# EAGLE library part NUCLEO-CN7 (library ELL-i-Boards)
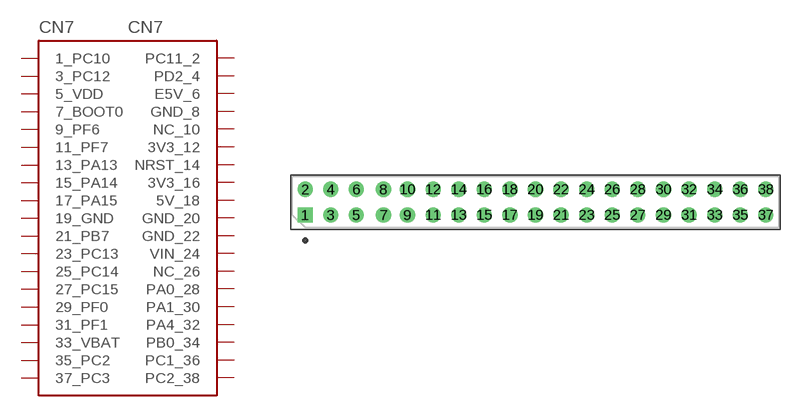
[diagram p5: symbol with the pads of NUCLEO-HEADER; footprint NUCLEO-HEADER]

Designator prefix CN7

## NUCLEO-CN7  [NUCLEO-HEADER]
1  1_PC10
2  PC11_2
3  3_PC12
4  PD2_4
5  5_VDD
6  E5V_6
7  7_BOOT0
8  GND_8
9  9_PF6
10  NC_10
11  11_PF7
12  3V3_12
13  13_PA13
14  NRST_14
15  15_PA14
16  3V3_16
17  17_PA15
18  5V_18
19  19_GND
20  GND_20
21  21_PB7
22  GND_22
23  23_PC13
24  VIN_24
25  25_PC14
26  NC_26
27  27_PC15
28  PA0_28
29  29_PF0
30  PA1_30
31  31_PF1
32  PA4_32
33  33_VBAT
34  PB0_34
35  35_PC2
36  PC1_36
37  37_PC3
38  PC2_38

## Footprint NUCLEO-HEADER (pad centres in mm)
drill 1 square: 1 -22.86,-1.27
drill 1: 2 -22.86,1.27; 3 -20.32,-1.27; 4 -20.32,1.27; 5 -17.78,-1.27; 6 -17.78,1.27; 7 -15.08,-1.27; 8 -15.08,1.27; 9 -12.7,-1.27; 10 -12.7,1.27; 11 -10.16,-1.27; 12 -10.16,1.27; 13 -7.62,-1.27; 14 -7.62,1.27; 15 -5.08,-1.27; 16 -5.08,1.27; 17 -2.54,-1.27; 18 -2.54,1.27; 19 0,-1.27; 20 0,1.27; 21 2.54,-1.27; 22 2.54,1.27; 23 5.08,-1.27; 24 5.08,1.27; 25 7.62,-1.27; 26 7.62,1.27; 27 10.16,-1.27; 28 10.16,1.27; 29 12.7,-1.27; 30 12.7,1.27; 31 15.24,-1.27; 32 15.24,1.27; 33 17.78,-1.27; 34 17.78,1.27; 35 20.32,-1.27; 36 20.32,1.27; 37 22.86,-1.27; 38 22.86,1.27